# Altium schematic symbol library LIB_TEMP_P20_CHARLES_NORMANDEAU_SCH.SchLib: 5 symbols
Pins are listed as number, name and electrical type; pins without a type are passive.

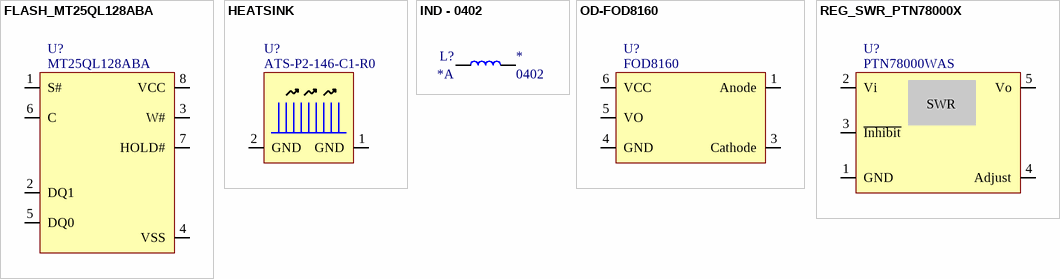
[diagram p0: symbols FLASH_MT25QL128ABA to REG_SWR_PTN78000X]

## FLASH_MT25QL128ABA
designator U?, comment MT25QL128ABA
MT25QL128ABA - 128Mb, 3V Multiple I/O Serial Flash Memory - Package code : SE; Manufacturer #1: Micron; Voltage Rating: 2V7 - 3V6; GRAMS Lib Spec: 2.7; HelpURL: https://media-www.micron.com/-/media/client/global/documents/products/data-sheet/nor-flash/serial-nor/mt25q/die-rev-a/mt25q_qlhs_l_128_aba_0.pdf; Supplier 1: Digikey; Supplier Part Number 1: MT25QL128ABA1ESE-0SIT TR
pins: 1 S#, 2 DQ1, 3 W#, 4 VSS, 5 DQ0, 6 C, 7 HOLD#, 8 VCC

## HEATSINK
designator U?, comment ATS-P2-146-C1-R0
HEATSINK 30X30X35MM L-TAB; Value: 3.98degC/W at 100 LFM; GRAMS Lib Spec: 2.7; Note: Top Mount; HelpURL: https://www.qats.com/pushPIN/DataSheet/ATS-P2-146-C1-R0; Supplier 1: Digikey; Supplier Part Number 1: ATS-P2-146-C1-R0-ND
pins: 1 GND, 2 GND

## IND - 0402
designator L?, comment Current: *A  Package: 0402  (hidden comment: Part Number)
IND - 0402; Voltage: *; value: *
pins: 0 1, 1 2

## OD-FOD8160
designator U?, comment FOD8160
XXX - Description - Package; GRAMS Lib Spec: 2.7; HelpURL: https://www.onsemi.com/pdf/datasheet/fod8160-d.pdf
pins: 1 Anode, 3 Cathode, 4 GND, 5 VO, 6 VCC

## REG_SWR_PTN78000X
designator U?, comment PTN78000WAS
XXX - Description - Package; GRAMS Lib Spec: 2.7
pins: 1 GND, 2 Vi, 3 ~{Inhibit}, 4 Adjust, 5 Vo
text: / SWR